# Altium schematic symbol library RC_Car.SchLib: 45 symbols
Pins are listed as number, name and electrical type; pins without a type are passive.

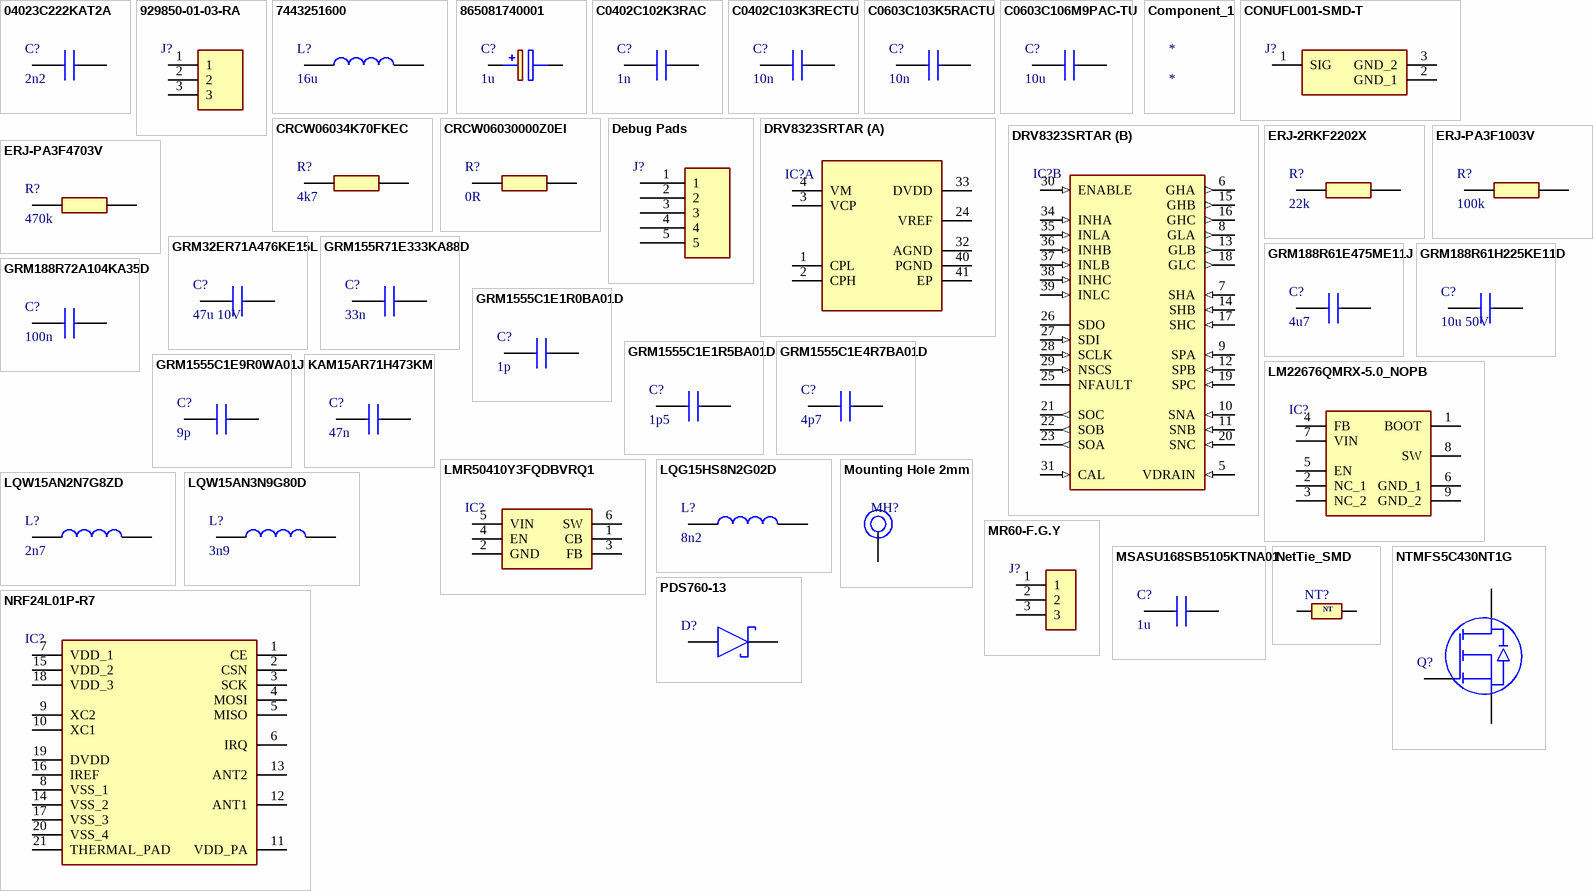
[diagram p0: symbols 04023C222KAT2A to PDS760-13]

## 04023C222KAT2A
designator C?, comment 2n2
Capacitor; Manufacturer_Name: Kyocera AVX; Manufacturer_Part_Number: 04023C222KAT2A; Datasheet Link: http://www.mouser.com/catalog/supplier/library/pdf/AVXSurfaceMountCeramic.pdf; Height: 0.56mm; Mouser Part Number: 581-04023C222KAT2A; Mouser Price/Stock: https://www.mouser.co.uk/ProductDetail/KYOCERA-AVX/04023C222KAT2A?qs=KeJ6wBBJrrorroMRPCeIVQ%3D%3D; Arrow Part Number: 04023C222KAT2A; Arrow Price/Stock: https://www.arrow.com/en/products/04023c222kat2a/avx?utm_currency=USD&region=nac
footprint CAPC1005X56N
pins: 1, 2

## 929850-01-03-RA
designator J?  (value not drawn)
Header; Manufacturer_Name: 3M; Manufacturer_Part_Number: 929850-01-03-RA; Datasheet Link: https://multimedia.3m.com/mws/media/22500O/3mtm-boardmount-skt-100-100x-100strt-sldr-tails-ts0815.pdf; Height: 8.26mm; Mouser Part Number: 517-929850-01-03-RA; Mouser Price/Stock: https://www.mouser.co.uk/ProductDetail/3M-Electronic-Solutions-Division/929850-01-03-RA?qs=neFkstNq%252B6HSkhIqD4w5cg%3D%3D; Arrow Part Number: 929850-01-03-RA; Arrow Price/Stock: https://www.arrow.com/en/products/929850-01-03-ra/3m?region=nac
footprint RHDR3W76P0X254_1X3_762X254X826P
pins: 1, 2, 3

## 7443251600
designator L?, comment 16u
Inductor; Manufacturer_Name: Wurth Elektronik; Manufacturer_Part_Number: 7443251600; Mouser Part Number: 710-7443251600; Mouser Price/Stock: https://www.mouser.co.uk/ProductDetail/Wurth-Elektronik/7443251600?qs=VxkwJfKV0FSkbbPOgC7FsA%3D%3D
footprint WE-HCI_105023
pins: 1, 2

## 865081740001
designator C?, comment 1u
Capacitor Polarised; Manufacturer_Name: Wurth Elektronik; Manufacturer_Part_Number: 865081740001; Datasheet Link: https://www.we-online.com/components/products/datasheet/865081740001.pdf; Height: 5.5mm; Mouser Part Number: 710-865081740001; Mouser Price/Stock: https://www.mouser.co.uk/ProductDetail/Wurth-Elektronik/865081740001?qs=amGC7iS6iy8gfpWwzj%2FS%2Fg%3D%3D
footprint CAPAE430X550N
pins: 1 +, 2 -

## C0402C102K3RAC
designator C?, comment 1n
Capacitor; Manufacturer_Name: KEMET; Manufacturer_Part_Number: C0402C102K3RAC; Datasheet Link: https://content.kemet.com/datasheets/KEM_C1002_X7R_SMD.pdf; Height: 0.55mm; Mouser Part Number: 80-C0402C102K3RAC; Mouser Price/Stock: https://www.mouser.co.uk/ProductDetail/KEMET/C0402C102K3RAC?qs=zlI8QACJnq%252BQ2zM2nES6Og%3D%3D; Arrow Part Number: C0402C102K3RAC; Arrow Price/Stock: https://www.arrow.com/en/products/c0402c102k3rac/kemet-corporation
footprint C0402C104J4RACTU
pins: 1, 2

## C0402C103K3RECTU
designator C?, comment 10n
Capacitor; Manufacturer_Name: KEMET; Manufacturer_Part_Number: C0402C103K3RECTU; Datasheet Link: https://content.kemet.com/datasheets/KEM_C1002_X7R_SMD.pdf; Height: 0.55mm
footprint C0402C104J4RACTU
pins: 1, 2

## C0603C103K5RACTU
designator C?, comment 10n
Capacitor; Manufacturer_Name: KEMET; Manufacturer_Part_Number: C0603C103K5RACTU; Datasheet Link: https://content.kemet.com/datasheets/KEM_C1002_X7R_SMD.pdf; Height: 0.87mm; Mouser Part Number: 80-C0603C103K5R; Mouser Price/Stock: https://www.mouser.co.uk/ProductDetail/KEMET/C0603C103K5RACTU?qs=aZBT8IJKz4hu1X55tMAU6Q%3D%3D; Arrow Part Number: C0603C103K5RACTU; Arrow Price/Stock: https://www.arrow.com/en/products/c0603c103k5ractu/kemet-corporation?utm_currency=USD&region=nac
footprint C0603
pins: 1, 2

## C0603C106M9PAC-TU
designator C?, comment 10u
Capacitor; Manufacturer_Name: KEMET; Manufacturer_Part_Number: C0603C106M9PAC-TU; Datasheet Link: https://componentsearchengine.com/Datasheets/2/C0603C106M9PAC-TU.pdf; Height: 0.9mm
footprint CAPC1608X90N
pins: 1, 2

## Component_1
designator *

## CONUFL001-SMD-T
designator J?  (value not drawn)
Connector; Manufacturer_Name: TE Connectivity; Manufacturer_Part_Number: CONUFL001-SMD-T; Datasheet Link: https://eu.mouser.com/datasheet/2/418/9/ENG_DS_CONUFL001_SMD_T_B-3238717.pdf; Height: 1.3mm; Mouser Part Number: N/A; Mouser Price/Stock: https://www.mouser.co.uk/ProductDetail/TE-Connectivity/CONUFL001-SMD-T?qs=3Rah4i%252BhyCHmRzMH%252BkLkPQ%3D%3D; Arrow Part Number: CONUFL001-SMD-T; Arrow Price/Stock: https://www.arrow.com/en/products/conufl001-smd-t/te-connectivity?utm_currency=USD&region=europe
footprint CONUFL001SMDT
pins: 1 SIG, 2 GND_1, 3 GND_2

## CRCW06034K70FKEC
designator R?, comment 4k7
Resistor; Manufacturer_Name: Vishay; Manufacturer_Part_Number: CRCW06034K70FKEC; Datasheet Link: http://www.vishay.com/docs/20035/dcrcwe3.pdf; Height: 0.5mm; Mouser Part Number: 71-CRCW06034K70FKEC; Mouser Price/Stock: https://www.mouser.co.uk/ProductDetail/Vishay-Dale/CRCW06034K70FKEC?qs=L%252B14cgJd8NPi5InG5zfNWw%3D%3D; Arrow Part Number: CRCW06034K70FKEC; Arrow Price/Stock: https://www.arrow.com/en/products/crcw06034k70fkec/vishay?utm_currency=USD&region=nac
footprint RESC1608X50N
pins: 1, 2

## CRCW06030000Z0EI
designator R?, comment 0R
Resistor; Manufacturer_Name: Vishay; Manufacturer_Part_Number: CRCW06030000Z0EI; Datasheet Link: http://www.vishay.com/docs/20035/dcrcwe3.pdf; Height: 0.5mm; Mouser Part Number: 71-CRCW06030000Z0EI; Mouser Price/Stock: https://www.mouser.co.uk/ProductDetail/Vishay-Dale/CRCW06030000Z0EI?qs=%252B6g0mu59x7L7KQG%252Bwwt0jQ%3D%3D; Arrow Part Number: CRCW06030000Z0EI; Arrow Price/Stock: https://www.arrow.com/en/products/crcw06030000z0ei/vishay?utm_currency=USD&region=nac
footprint RESC1608X50N
pins: 1, 2

## Debug Pads
designator J?, comment SW Debug  (value not drawn)  (no BOM)
footprint SW_Debug
pins: 1, 2, 3, 4, 5

## DRV8323SRTAR
designator IC?  (value not drawn)
Integrated Circuit; Manufacturer_Name: Texas Instruments; Manufacturer_Part_Number: DRV8323SRTAR; Datasheet Link: http://www.ti.com/lit/ds/symlink/drv8323.pdf; Height: 0.8mm; Mouser Part Number: 595-DRV8323SRTAR; Mouser Price/Stock: https://www.mouser.co.uk/ProductDetail/Texas-Instruments/DRV8323SRTAR?qs=u4fy%2FsgLU9P2gpPTX6mffg%3D%3D; Arrow Part Number: DRV8323SRTAR; Arrow Price/Stock: https://www.arrow.com/en/products/drv8323srtar/texas-instruments?utm_currency=USD&region=nac
footprint QFN50P600X600X80-41N-D
part A pins: 1 CPL (power), 2 CPH (power), 3 VCP (power), 4 VM (power), 24 VREF (power), 32 AGND (power), 33 DVDD (power), 40 PGND (power), 41 EP (power)
part B pins: 5 VDRAIN (in), 6 GHA (out), 7 SHA (in), 8 GLA (out), 9 SPA (in), 10 SNA (in), 11 SNB (in), 12 SPB (in), 13 GLB (out), 14 SHB (in), 15 GHB (out), 16 GHC (out), 17 SHC (in), 18 GLC (out), 19 SPC (in), 20 SNC (in), 21 SOC (out), 22 SOB (out), 23 SOA (out), 25 NFAULT, 26 SDO, 27 SDI (in), 28 SCLK (in), 29 NSCS (in), 30 ENABLE (in), 31 CAL (in), 34 INHA (in), 35 INLA (in), 36 INHB (in), 37 INLB (in), 38 INHC (in), 39 INLC (in)

## ERJ-2RKF2202X
designator R?, comment 22k
Resistor; Manufacturer_Name: Panasonic; Manufacturer_Part_Number: ERJ-2RKF2202X; Datasheet Link: https://industrial.panasonic.com/cdbs/www-data/pdf/RDA0000/AOA0000C86.pdf; Height: 0.4mm; Mouser Part Number: 667-ERJ-2RKF2202X; Mouser Price/Stock: https://www.mouser.co.uk/ProductDetail/Panasonic/ERJ-2RKF2202X?qs=YMBIwoNQYdW1VNg8fYH1Ug%3D%3D; Arrow Part Number: ERJ-2RKF2202X; Arrow Price/Stock: https://www.arrow.com/en/products/erj-2rkf2202x/panasonic?region=europe
footprint ERJ2RKD1004X
pins: 1, 2

## ERJ-PA3F1003V
designator R?, comment 100k
Resistor; Manufacturer_Name: Panasonic; Manufacturer_Part_Number: ERJ-PA3F1003V; Datasheet Link: https://industrial.panasonic.com/cdbs/www-data/pdf/RDO0000/AOA0000C331.pdf; Height: 0.55mm; Mouser Part Number: 667-ERJ-PA3F1003V; Mouser Price/Stock: https://www.mouser.co.uk/ProductDetail/Panasonic/ERJ-PA3F1003V/?qs=T0XSgvH75d5hvtv%252BnTMv1g%3D%3D
footprint ERJP03_PA3_(0603)
pins: 1, 2

## ERJ-PA3F4703V
designator R?, comment 470k
Resistor; Manufacturer_Name: Panasonic; Manufacturer_Part_Number: ERJ-PA3F4703V; Datasheet Link: https://industrial.panasonic.com/cdbs/www-data/pdf/RDO0000/AOA0000C331.pdf; Height: 0.55mm; Mouser Part Number: 667-ERJ-PA3F4703V; Mouser Price/Stock: https://www.mouser.co.uk/ProductDetail/Panasonic/ERJ-PA3F4703V?qs=BzJM0faLVqUgOOiMN4LfmA%3D%3D
footprint ERJP03_PA3_(0603)
pins: 1, 2

## GRM32ER71A476KE15L
designator C?, comment 47u 10V
Capacitor; Manufacturer_Name: Murata Electronics; Manufacturer_Part_Number: GRM32ER71A476KE15L; Datasheet Link: https://search.murata.co.jp/Ceramy/image/img/A01X/G101/ENG/GRM32ER71A476KE15-04CA.pdf; Height: 1.5mm; Mouser Part Number: 81-GRM32ER71A476KE5L; Mouser Price/Stock: https://www.mouser.co.uk/ProductDetail/Murata-Electronics/GRM32ER71A476KE15L?qs=igOKQWwJTmw3%252BdJ0z0AeYw%3D%3D; Arrow Part Number: GRM32ER71A476KE15L; Arrow Price/Stock: https://www.arrow.com/en/products/grm32er71a476ke15l/murata-manufacturing?utm_currency=USD&region=nac
footprint GRM32x
pins: 1, 2

## GRM155R71E333KA88D
designator C?, comment 33n
Capacitor; Manufacturer_Name: Murata Electronics; Manufacturer_Part_Number: GRM155R71E333KA88D; Datasheet Link: https://search.murata.co.jp/Ceramy/image/img/A01X/G101/ENG/GRM155R71E333KA88-01A.pdf; Height: 0.7mm; Mouser Part Number: 81-GRM155R71E333KA8D; Mouser Price/Stock: https://www.mouser.com/Search/Refine.aspx?Keyword=81-GRM155R71E333KA8D; Arrow Part Number: GRM155R71E333KA88D; Arrow Price/Stock: https://www.arrow.com/en/products/grm155r71e333ka88d/murata-manufacturing?region=nac
footprint CAPC1005X70N
pins: 1, 2

## GRM188R61E475ME11J
designator C?, comment 4u7
Capacitor; Manufacturer_Name: Murata Electronics; Manufacturer_Part_Number: GRM188R61E475ME11J; Datasheet Link: https://search.murata.co.jp/Ceramy/image/img/A01X/G101/ENG/GRM188R61E475ME11-01A.pdf; Height: 0.9mm; Mouser Part Number: 81-GRM188R61E475ME1J; Mouser Price/Stock: https://www.mouser.co.uk/ProductDetail/Murata-Electronics/GRM188R61E475ME11J?qs=qSfuJ%252Bfl%2Fd5xnSEcMLhPZA%3D%3D; Arrow Part Number: GRM188R61E475ME11J; Arrow Price/Stock: https://www.arrow.com/en/products/grm188r61e475me11j/murata-manufacturing?region=nac
footprint CAPC1608X90N
pins: 1, 2

## GRM188R61H225KE11D
designator C?, comment 10u 50V
Capacitor; Manufacturer_Name: Murata Electronics; Manufacturer_Part_Number: GRM188R61H225KE11D; Datasheet Link: https://search.murata.co.jp/Ceramy/image/img/A01X/G101/ENG/GRM188R61H225KE11-01A.pdf; Height: 0.9mm; Mouser Part Number: 81-GRM188R61H225KE1D; Mouser Price/Stock: https://www.mouser.co.uk/ProductDetail/Murata-Electronics/GRM188R61H225KE11D?qs=eeBpzGFlv%252B%2Fz%2FOAJ2DfLOw%3D%3D; Arrow Part Number: GRM188R61H225KE11D; Arrow Price/Stock: https://www.arrow.com/en/products/grm188r61h225ke11d/murata-manufacturing?utm_currency=USD&region=nac
footprint CAPC1608X90N
pins: 1, 2

## GRM188R72A104KA35D
designator C?, comment 100n
Capacitor; Manufacturer_Name: Murata Electronics; Manufacturer_Part_Number: GRM188R72A104KA35D; Datasheet Link: https://search.murata.co.jp/Ceramy/image/img/A01X/G101/ENG/GRM188R72A104KA35-01A.pdf; Height: 0.9mm; Mouser Part Number: 81-GRM188R72A104KA35; Mouser Price/Stock: https://www.mouser.co.uk/ProductDetail/Murata-Electronics/GRM188R72A104KA35D?qs=P%252BBA3F6RM%2F5aaC9LFKRzYw%3D%3D; Arrow Part Number: GRM188R72A104KA35D; Arrow Price/Stock: https://www.arrow.com/en/products/grm188r72a104ka35d/murata-manufacturing?utm_currency=USD&region=nac
footprint GRM18x
pins: 1, 2

## GRM1555C1E1R0BA01D
designator C?, comment 1p
Capacitor; Manufacturer_Name: Murata Electronics; Manufacturer_Part_Number: GRM1555C1E1R0BA01D; Datasheet Link: https://search.murata.co.jp/Ceramy/image/img/A01X/G101/ENG/GRM1555C1E1R0BA01-01A.pdf; Height: 0.7mm; Mouser Part Number: 81-GRM1555C1E1R0BA1D; Mouser Price/Stock: https://www.mouser.com/Search/Refine.aspx?Keyword=81-GRM1555C1E1R0BA1D; Arrow Part Number: GRM1555C1E1R0BA01D; Arrow Price/Stock: https://www.arrow.com/en/products/grm1555c1e1r0ba01d/murata-manufacturing
footprint CAPC1005X70N
pins: 1, 2

## GRM1555C1E1R5BA01D
designator C?, comment 1p5
Capacitor; Manufacturer_Name: Murata Electronics; Manufacturer_Part_Number: GRM1555C1E1R5BA01D; Datasheet Link: https://search.murata.co.jp/Ceramy/image/img/A01X/G101/ENG/GRM1555C1E1R5BA01-01A.pdf; Height: 0.7mm; Arrow Part Number: GRM1555C1E1R5BA01D; Arrow Price/Stock: https://www.arrow.com/en/products/grm1555c1e1r5ba01d/murata-manufacturing
footprint CAPC1005X70N
pins: 1, 2

## GRM1555C1E4R7BA01D
designator C?, comment 4p7
Capacitor; Manufacturer_Name: Murata Electronics; Manufacturer_Part_Number: GRM1555C1E4R7BA01D; Datasheet Link: https://search.murata.co.jp/Ceramy/image/img/A01X/G101/ENG/GRM1555C1E4R7BA01-01A.pdf; Height: 0.7mm; Mouser Part Number: 81-GRM1555C1E4R7BA1D; Mouser Price/Stock: https://www.mouser.co.uk/ProductDetail/Murata-Electronics/GRM1555C1E4R7BA01D?qs=ouTquLLW2S4mxqzIU81JVw%3D%3D; Arrow Part Number: GRM1555C1E4R7BA01D; Arrow Price/Stock: https://www.arrow.com/en/products/grm1555c1e4r7ba01d/murata-manufacturing?region=nac
footprint CAPC1005X70N
pins: 1, 2

## GRM1555C1E9R0WA01J
designator C?, comment 9p
Capacitor; Manufacturer_Name: Murata Electronics; Manufacturer_Part_Number: GRM1555C1E9R0WA01J; Datasheet Link: http://www.murata.com/~/media/webrenewal/support/library/catalog/products/capacitor/mlcc/c02e.pdf; Height: 0.7mm
footprint CAPC1005X70N
pins: 1, 2

## KAM15AR71H473KM
designator C?, comment 47n
Capacitor; Manufacturer_Name: Kyocera AVX; Manufacturer_Part_Number: KAM15AR71H473KM; Datasheet Link: https://www.mouser.com/ProductDetail/KYOCERA-AVX/KAM15AR71H473KM?qs=Jm2GQyTW%2Fbirhk%2FTN5CLyw%3D%3D; Height: 0.89mm; Mouser Part Number: 581-KAM15AR71H473KM; Mouser Price/Stock: https://www.mouser.co.uk/ProductDetail/KYOCERA-AVX/KAM15AR71H473KM?qs=Jm2GQyTW%2Fbirhk%2FTN5CLyw%3D%3D; Arrow Part Number: KAM15AR71H473KM; Arrow Price/Stock: https://www.arrow.com/en/products/kam15ar71h473km/avx?region=nac
footprint CAPC1608X89N
pins: 1, 2

## LM22676QMRX-5.0_NOPB
designator IC?  (value not drawn)
5V Buck; Manufacturer_Name: Texas Instruments; Manufacturer_Part_Number: LM22676QMRX-5.0/NOPB; Datasheet Link: https://www.ti.com/general/docs/suppproductinfo.tsp?distId=10&gotoUrl=https%3A%2F%2Fwww.ti.com%2Flit%2Fgpn%2Flm22676; Height: 1.7mm; Mouser Part Number: 926-LM22676QMRX50NPB; Mouser Price/Stock: https://www.mouser.com/Search/Refine.aspx?Keyword=926-LM22676QMRX50NPB
footprint SOIC127P600X170-9N
pins: 1 BOOT, 2 NC_1, 3 NC_2, 4 FB, 5 EN, 6 GND_1, 7 VIN, 8 SW, 9 GND_2

## LMR50410Y3FQDBVRQ1
designator IC?  (value not drawn)
3V3 Buck; Manufacturer_Name: Texas Instruments; Manufacturer_Part_Number: LMR50410Y3FQDBVRQ1; Datasheet Link: https://www.ti.com/lit/ds/symlink/lmr50410-q1.pdf?ts=1611309677669; Height: 1.45mm; Mouser Part Number: 595-R50410Y3FQDBVRQ1; Mouser Price/Stock: https://www.mouser.co.uk/ProductDetail/Texas-Instruments/LMR50410Y3FQDBVRQ1?qs=81r%252BiQLm7BTaIXwCgdOuiA%3D%3D; Arrow Part Number: LMR50410Y3FQDBVRQ1; Arrow Price/Stock: https://www.arrow.com/en/products/lmr50410y3fqdbvrq1/texas-instruments?utm_currency=USD&region=europe
footprint SOT95P280X145-6N
pins: 1 CB, 2 GND, 3 FB, 4 EN, 5 VIN, 6 SW

## LQG15HS8N2G02D
designator L?, comment 8n2
Inductor; Manufacturer_Name: Murata Electronics; Manufacturer_Part_Number: LQG15HS8N2G02D; Datasheet Link: https://search.murata.co.jp/Ceramy/image/img/P02/JELF243B-0010.pdf; Height: 0.6mm; Mouser Part Number: 81-LQG15HS8N2G02D; Mouser Price/Stock: https://www.mouser.co.uk/ProductDetail/Murata-Electronics/LQG15HS8N2G02D?qs=d0WKAl%252BL4KapDveqKJ4FDA%3D%3D
footprint LQG15WH0N7B02D
pins: 1, 2

## LQW15AN2N7G8ZD
designator L?, comment 2n7
Inductor; Manufacturer_Name: Murata Electronics; Manufacturer_Part_Number: LQW15AN2N7G8ZD; Datasheet Link: https://search.murata.co.jp/Ceramy/image/img/P02/JELF243A-9138.pdf; Height: 0.6mm; Mouser Part Number: 81-LQW15AN2N7G8ZD; Mouser Price/Stock: https://www.mouser.com/Search/Refine.aspx?Keyword=81-LQW15AN2N7G8ZD
footprint LQW15CNR20J00B
pins: 1, 2

## LQW15AN3N9G80D
designator L?, comment 3n9
Inductor; Manufacturer_Name: Murata Electronics; Manufacturer_Part_Number: LQW15AN3N9G80D; Datasheet Link: https://search.murata.co.jp/Ceramy/image/img/P02/JELF243A-0100.pdf; Height: 0.6mm; Mouser Part Number: 81-LQW15AN3N9G80D; Mouser Price/Stock: https://www.mouser.co.uk/ProductDetail/Murata-Electronics/LQW15AN3N9G80D?qs=QzBtWTOodeVJ47BgUNTlYA%3D%3D
footprint LQW15AN10NG80D
pins: 1, 2

## Mounting Hole 2mm
designator MH?  (value not drawn)  (no BOM)
Mounting Hole 2mm
footprint Mounting Hole (2mm Mounting Hole)
pins: 1

## MR60-F.G.Y
designator J?  (value not drawn)
High Current Pluggable Cables Assemblies ROHS
footprint MR60-F.G.Y (High Current Connector 3 Pin)
pins: 1, 2, 3

## MSASU168SB5105KTNA01
designator C?, comment 1u
Capacitor; Manufacturer_Name: TAIYO YUDEN; Manufacturer_Part_Number: MSASU168SB5105KTNA01; Datasheet Link: https://ds.yuden.co.jp/TYCOMPAS/or/detail?pn=MSASU168SB5105KTNA01&u=M; Height: 0.9mm; Mouser Part Number: 963-MSASU168SB5105KT; Mouser Price/Stock: https://www.mouser.co.uk/ProductDetail/TAIYO-YUDEN/MSASU168SB5105KTNA01?qs=tlsG%2FOw5FFjgZgcWjqLW4Q%3D%3D; Arrow Part Number: MSASU168SB5105KTNA01; Arrow Price/Stock: https://www.arrow.com/en/products/msasu168sb5105ktna01/taiyo-yuden?region=nac
footprint CAPC1608X90N
pins: 1, 2

## NetTie_SMD
designator NT?  (value not drawn)  (net tie, no BOM)
NetTie_SMD
footprint NetTie_SMD
pins: 1, 2
text: NT

## NRF24L01P-R7
designator IC?  (value not drawn)
Integrated Circuit; Manufacturer_Name: Nordic Semiconductor; Manufacturer_Part_Number: NRF24L01P-R7; Datasheet Link: https://www.mouser.com/ds/2/297/nRF24L01P-1187709.pdf; Height: 0.95mm; Mouser Part Number: 949-NRF24L01P-R7; Mouser Price/Stock: https://www.mouser.co.uk/ProductDetail/Nordic-Semiconductor/nRF24L01P-R7?qs=yd0qOhnSiDe8zMRXiZkGiQ%3D%3D; Arrow Part Number: NRF24L01P-R7; Arrow Price/Stock: https://www.arrow.com/en/products/nrf24l01p-r7/nordic-semiconductor?utm_currency=USD&region=nac
footprint QFN50P400X400X95-21N-D
pins: 1 CE, 2 CSN, 3 SCK, 4 MOSI, 5 MISO, 6 IRQ, 7 VDD_1, 8 VSS_1, 9 XC2, 10 XC1, 11 VDD_PA, 12 ANT1, 13 ANT2, 14 VSS_2, 15 VDD_2, 16 IREF, 17 VSS_3, 18 VDD_3, 19 DVDD, 20 VSS_4, 21 THERMAL_PAD

## NTMFS5C430NT1G
designator Q?  (value not drawn)
MOSFET (N-Channel); Manufacturer_Name: onsemi; Manufacturer_Part_Number: NTMFS5C430NT1G; Datasheet Link: https://www.onsemi.com/pub/Collateral/NTMFS4C03N-D.PDF; Height: 1.1mm; Mouser Part Number: 863-NTMFS5C430NT1G; Mouser Price/Stock: https://www.mouser.co.uk/ProductDetail/ON-Semiconductor/NTMFS5C430NT1G?qs=OycAS1CGnliPpFX2vF53nQ%3D%3D; Arrow Part Number: NTMFS5C430NT1G; Arrow Price/Stock: https://www.arrow.com/en/products/ntmfs5c430nt1g/on-semiconductor
footprint NTMFS4C022N
pins: 1 S, 2 S, 3 S, 4 Gate, 5 D, 6 D, 7 D, 8 D, 9 D

## PDS760-13
designator D?  (value not drawn)
Schottky Diode; Manufacturer_Name: Diodes Incorporated; Manufacturer_Part_Number: PDS760-13; Datasheet Link: https://www.diodes.com/assets/Datasheets/PDS760.pdf; Height: 1.15mm; Mouser Part Number: 621-PDS760-F; Mouser Price/Stock: https://www.mouser.co.uk/ProductDetail/Diodes-Incorporated/PDS760-13?qs=%2FNF5U5UGuWlxwy7NIrHVWQ%3D%3D; Arrow Part Number: PDS760-13; Arrow Price/Stock: https://www.arrow.com/en/products/pds760-13/diodes-incorporated?region=europe
footprint PDS76013
pins: 1 A_1, 2 A_2, 3 COM_K

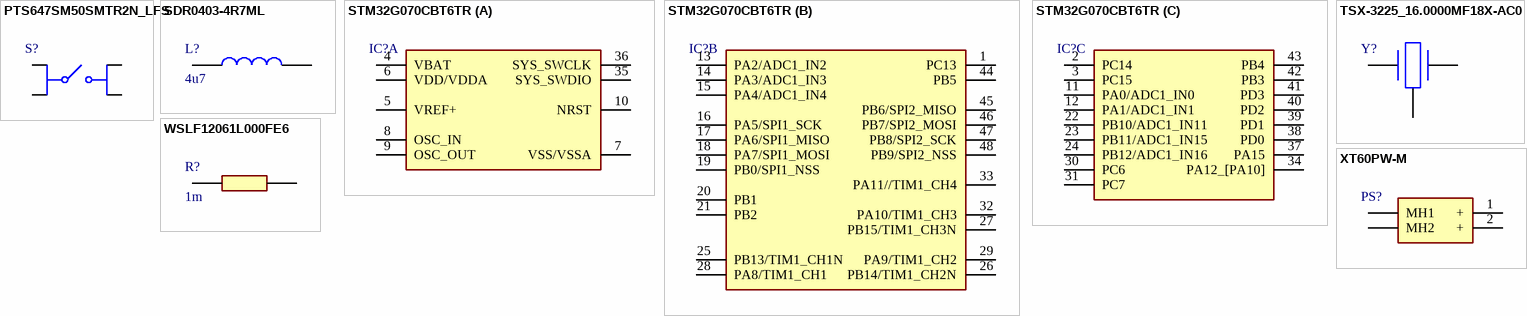
[diagram p1: symbols PTS647SM50SMTR2N_LFS to XT60PW-M]

## PTS647SM50SMTR2N_LFS
designator S?  (value not drawn)
Switch (4-Pin Push); Manufacturer_Name: C & K COMPONENTS; Manufacturer_Part_Number: PTS647SM50SMTR2N LFS; Datasheet Link: https://www.ckswitches.com/media/2567/pts647.pdf
footprint PTS647SK50SMTR2LFS
pins: 1 NO_1, 2 NO_2, 3 COM_1, 4 COM_2

## SDR0403-4R7ML
designator L?, comment 4u7
Inductor; Manufacturer_Name: Bourns; Manufacturer_Part_Number: SDR0403-4R7ML; Datasheet Link: http://www.bourns.com/docs/Product-Datasheets/sdr0403.pdf; Mouser Part Number: 652-SDR0403-4R7ML; Mouser Price/Stock: https://www.mouser.co.uk/ProductDetail/Bourns/SDR0403-4R7ML?qs=xrpI9KL%2FXvtm2g7dmggyxA%3D%3D; Arrow Part Number: SDR0403-4R7ML; Arrow Price/Stock: https://www.arrow.com/en/products/sdr0403-4r7ml/bourns?region=nac
footprint SDR0403
pins: 1, 2

## STM32G070CBT6TR
designator IC?  (value not drawn)
Integrated Circuit; Manufacturer_Name: STMicroelectronics; Manufacturer_Part_Number: STM32G070CBT6TR; Datasheet Link: https://www.st.com/resource/en/datasheet/stm32g070cb.pdf; Height: 1.6mm; Mouser Part Number: 511-STM32G070CBT6TR; Mouser Price/Stock: https://www.mouser.co.uk/ProductDetail/STMicroelectronics/STM32G070CBT6TR?qs=xZ%2FP%252Ba9zWqZMnP7ZLxt7Tg%3D%3D; Arrow Part Number: STM32G070CBT6TR; Arrow Price/Stock: https://www.arrow.com/en/products/stm32g070cbt6tr/stmicroelectronics?utm_currency=USD&region=nac
footprint QFP50P900X900X160-48N
part A pins: 4 VBAT, 5 VREF+, 6 VDD/VDDA, 7 VSS/VSSA, 8 OSC_IN, 9 OSC_OUT, 10 NRST, 35 SYS_SWDIO, 36 SYS_SWCLK
part B pins: 1 PC13, 13 PA2/ADC1_IN2, 14 PA3/ADC1_IN3, 15 PA4/ADC1_IN4, 16 PA5/SPI1_SCK, 17 PA6/SPI1_MISO, 18 PA7/SPI1_MOSI, 19 PB0/SPI1_NSS, 20 PB1, 21 PB2, 25 PB13/TIM1_CH1N, 26 PB14/TIM1_CH2N, 27 PB15/TIM1_CH3N, 28 PA8/TIM1_CH1, 29 PA9/TIM1_CH2, 32 PA10/TIM1_CH3, 33 PA11//TIM1_CH4, 44 PB5, 45 PB6/SPI2_MISO, 46 PB7/SPI2_MOSI, 47 PB8/SPI2_SCK, 48 PB9/SPI2_NSS
part C pins: 2 PC14, 3 PC15, 11 PA0/ADC1_IN0, 12 PA1/ADC1_IN1, 22 PB10/ADC1_IN11, 23 PB11/ADC1_IN15, 24 PB12/ADC1_IN16, 30 PC6, 31 PC7, 34 PA12_[PA10], 37 PA15, 38 PD0, 39 PD1, 40 PD2, 41 PD3, 42 PB3, 43 PB4

## TSX-3225_16.0000MF18X-AC0
designator Y?  (value not drawn)
16MHz Crystal; Manufacturer_Name: Epson Timing; Manufacturer_Part_Number: TSX-3225 16.0000MF18X-AC0; Datasheet Link: https://www.digikey.ph/en/products/detail/epson/TSX-3225-16-0000MF18X-AC0/5260855; Height: 0.6mm; Mouser Part Number: 732-322516F18XAC0; Mouser Price/Stock: https://www.mouser.co.uk/ProductDetail/Epson-Timing/TSX-3225-16.0000MF18X-AC0?qs=wwacUt%252BV97taurHtFwy%2FEA%3D%3D; Arrow Part Number: TSX-3225 16.0000MF18X-AC0; Arrow Price/Stock: https://www.arrow.com/en/products/tsx-322516.0000mf18x-ac0/epson-electronics-america?utm_currency=USD&region=nac
footprint TSX3225160000MF18XAC0
pins: 1 CRYSTAL_1, 2 GND_1, 3 CRYSTAL_2, 4 GND_2

## WSLF12061L000FE6
designator R?, comment 1m
Resistor; Manufacturer_Name: Vishay; Manufacturer_Part_Number: WSLF12061L000FE6; Datasheet Link: https://www.mouser.com/ProductDetail/Vishay-Dale/WSLF12061L000FE6?qs=ZcfC38r4PovQE2MJp0mYbA%3D%3D&srsltid=AfmBOorChnK_yDo1m4XS1OcwHom5geXYRBAQAQW72Pk4TppObIeOkLu6; Height: 1mm; Mouser Part Number: 71-WSLF12061L000FE6; Mouser Price/Stock: https://www.mouser.co.uk/ProductDetail/Vishay-Dale/WSLF12061L000FE6?qs=ZcfC38r4PovQE2MJp0mYbA%3D%3D
footprint WSLF12061L000FE6
pins: 1, 2

## XT60PW-M
designator PS?  (value not drawn)
Power Header; Manufacturer_Name: Changzhou Amass Elec; Manufacturer_Part_Number: XT60PW-M; Datasheet Link: https://www.tme.eu/Document/b13629717d44ae038681dba08d18c0b6/XT60PW-M.pdf; Height: 8.4mm
footprint XT60PWM
pins: 1 +, 2 +, MH1, MH2